# Altium footprint library Wurth_Elektronik_Passive_rev16a.PCBLIB: 810 footprints (part 33 of 51)
Each footprint in its own frame and in the unit in brackets; x right, y up, seen from the top. Pads: shape width x height; smd on the part's side, far side on the other; paste and mask are expansions set on the pad; w line width, h text height; cw(c..) or ccw(c..) is an arc to the next point about the centre after c.
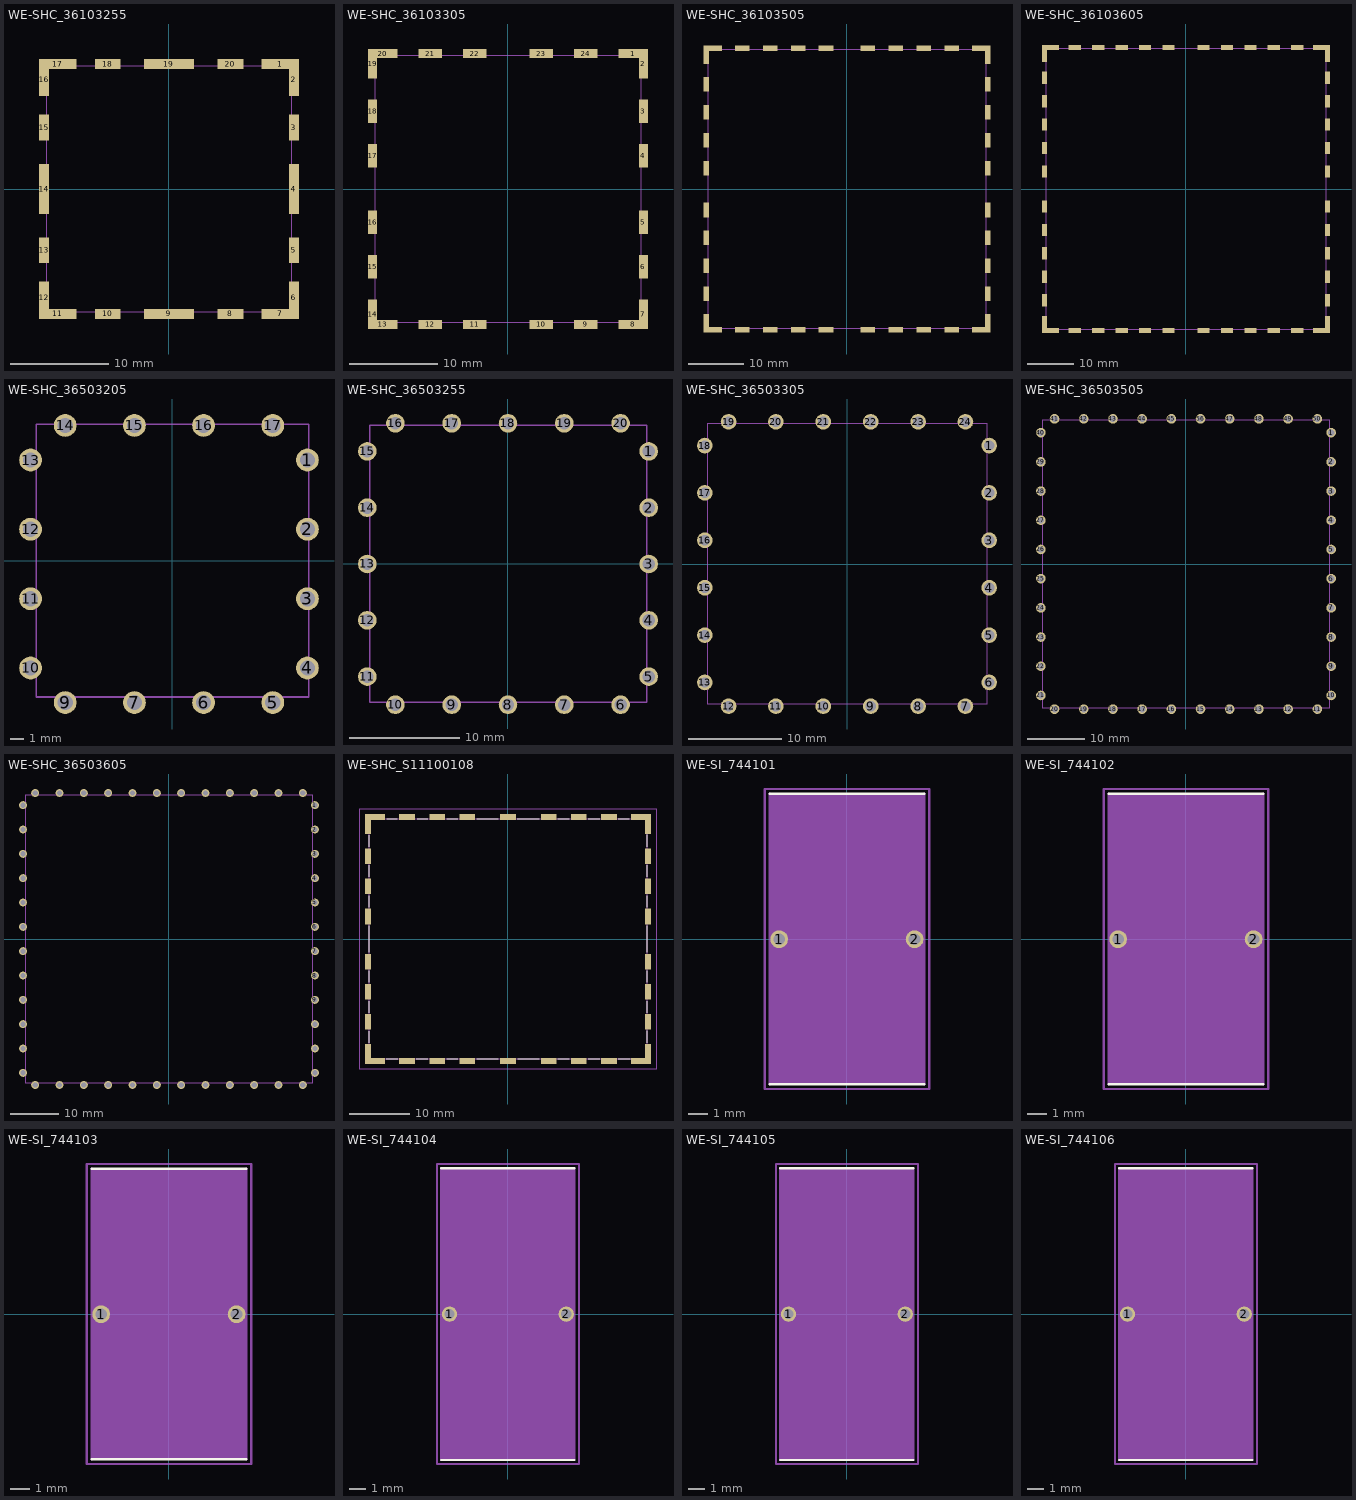
[diagram p32: the footprints below, top view; thin cyan lines are the x and y axes]

## WE-SHC_36103255 [mil]
pads (20):
  rect 150x40 smd: 1(447,502) 7(447,-501.97) 11(-446.85,-501.97) 17(-446.85,502)
  rect 40x130 smd: 2(502,438) 6(502,-437.01) 12(-501.97,-437.01) 16(-501.97,438)
  rect 40x103 smd: 3(502,247) 5(502,-246.06) 13(-501.97,-246.06) 15(-501.97,247)
  rect 40x201 smd: 4(502,0) 14(-501.97,0)
  rect 103x40 smd: 8(247,-501.97) 10(-246.06,-501.97) 18(-246.06,502) 20(247,502)
  rect 201x40 smd: 9(0,-501.97) 19(0,502)
Mechanical 2:
  text ">NAME" at -683.34,689 h77.5
Mechanical 4:
  text ">VALUE" at -683.34,-758.34 h77.5
Mechanical 16:
  lines w5: -492.13,-492.13 -492.13,493 493,493 493,-492.13 -492.13,-492.13

## WE-SHC_36103305 [mil]
pads (24):
  rect 130x40 smd: 1(556,601) 8(556,-600.39) 13(-555.12,-600.39) 20(-555.12,601)
  rect 40x130 smd: 2(601,556) 7(601,-555.12) 14(-600.39,-555.12) 19(-600.39,556)
  rect 40x103 smd: 3(601,345) 4(601,148) 5(601,-147.64) 6(601,-344.49) 15(-600.39,-344.49) 16(-600.39,-147.64) 17(-600.39,148) 18(-600.39,345)
  rect 103x40 smd: 9(345,-600.39) 10(148,-600.39) 11(-147.64,-600.39) 12(-344.49,-600.39) 21(-344.49,601) 22(-147.64,601) 23(148,601) 24(345,601)
Mechanical 2:
  text ">NAME" at -765.98,771 h77.5
Mechanical 4:
  text ">VALUE" at -765.98,-840.98 h77.5
Mechanical 16:
  lines w5: -590.55,-590.55 -590.55,591 591,591 591,-590.55 -590.55,-590.55

## WE-SHC_36103505 [mil]
pads (40):
  rect 130x40 smd: 1(949,995) 12(949,-994.09) 21(-948.82,-994.09) 32(-948.82,995)
  rect 40x130 smd: 2(995,949) 11(995,-948.82) 22(-994.09,-948.82) 31(-994.09,949)
  rect 40x103 smd: 3(995,739) 4(995,542) 5(995,345) 6(995,148) 7(995,-147.64) 8(995,-344.49) 9(995,-541.34) 10(995,-738.19) 23(-994.09,-738.19) 24(-994.09,-541.34) 25(-994.09,-344.49) 26(-994.09,-147.64) 27(-994.09,148) 28(-994.09,345) 29(-994.09,542) 30(-994.09,739)
  rect 103x40 smd: 13(739,-994.09) 14(542,-994.09) 15(345,-994.09) 16(148,-994.09) 17(-147.64,-994.09) 18(-344.49,-994.09) 19(-541.34,-994.09) 20(-738.19,-994.09) 33(-738.19,995) 34(-541.34,995) 35(-344.49,995) 36(-147.64,995) 37(148,995) 38(345,995) 39(542,995) 40(739,995)
Mechanical 2:
  text ">NAME" at -1160.06,1166 h77.5
Mechanical 4:
  text ">VALUE" at -1160.06,-1235.06 h77.5
Mechanical 16:
  lines w5: -984.25,-984.25 -984.25,985 985,985 985,-984.25 -984.25,-984.25

## WE-SHC_36103605 [mil]
pads (48):
  rect 142x40 smd: 1(1140,1191) 14(1140,-1190.94) 25(-1139.76,-1190.94) 38(-1139.76,1191)
  rect 40x142 smd: 2(1191,1140) 13(1191,-1139.76) 26(-1190.94,-1139.76) 37(-1190.94,1140)
  rect 40x103 smd: 3(1191,936) 4(1191,739) 5(1191,542) 6(1191,345) 7(1191,148) 8(1191,-147.64) 9(1191,-344.49) 10(1191,-541.34) 11(1191,-738.19) 12(1191,-935.04) 27(-1190.94,-935.04) 28(-1190.94,-738.19) 29(-1190.94,-541.34) 30(-1190.94,-344.49) 31(-1190.94,-147.64) 32(-1190.94,148) 33(-1190.94,345) 34(-1190.94,542) 35(-1190.94,739) 36(-1190.94,936)
  rect 103x40 smd: 15(936,-1190.94) 16(739,-1190.94) 17(542,-1190.94) 18(345,-1190.94) 19(148,-1190.94) 20(-147.64,-1190.94) 21(-344.49,-1190.94) 22(-541.34,-1190.94) 23(-738.19,-1190.94) 24(-935.04,-1190.94) 39(-935.04,1191) 40(-738.19,1191) 41(-541.34,1191) 42(-344.49,1191) 43(-147.64,1191) 44(148,1191) 45(345,1191) 46(542,1191) 47(739,1191) 49(936,1191)
Mechanical 2:
  text ">NAME" at -1362.65,1368 h77.5
Mechanical 4:
  text ">VALUE" at -1362.65,-1437.65 h77.5
Mechanical 16:
  lines w5: -1181.1,-1181.1 -1181.1,1182 1182,1182 1182,-1181.1 -1181.1,-1181.1

## WE-SHC_36503205 [mil]
pads (16):
  round 66 hole 44: 1(390,291) 2(390,91) 3(390,-109.99) 4(390,-309.99) 5(290,-409.99) 6(90,-409.99) 7(-110.02,-409.99) 9(-310.02,-409.99) 10(-410.02,-309.99) 11(-410.02,-109.99) 12(-410.02,91) 13(-410.02,291) 14(-310.02,391) 15(-110.02,391) 16(90,391) 17(290,391)
Mechanical 2:
  text ">NAME" at -654.11,639 h77.5
Mechanical 4:
  text ">VALUE" at -654.11,-729.11 h77.5
Mechanical 16:
  lines w5: -393.7,-393.7 -393.7,394 394,394 394,-393.7 -393.7,-393.7

## WE-SHC_36503255 [mil]
pads (20):
  round 66 hole 44: 1(500,400) 2(500,200) 3(500,0) 4(500,-200) 5(500,-400) 6(400,-500) 7(200,-500) 8(0,-500) 9(-200,-500) 10(-400,-500) 11(-500,-400) 12(-500,-200) 13(-500,0) 14(-500,200) 15(-500,400) 16(-400,500) 17(-200,500) 18(0,500) 19(200,500) 20(400,500)
Mechanical 2:
  text ">NAME" at -743.81,749 h77.5
Mechanical 4:
  text ">VALUE" at -743.81,-818.81 h77.5
Mechanical 16:
  lines w5: -492.13,-492.13 -492.13,493 493,493 493,-492.13 -492.13,-492.13

## WE-SHC_36503305 [mil]
pads (24):
  round 66 hole 44: 1(600,500) 2(600,300) 3(600,100) 4(600,-100) 5(600,-300) 6(600,-500) 7(500,-600) 8(300,-600) 9(100,-600) 10(-100,-600) 11(-300,-600) 12(-500,-600) 13(-600,-500) 14(-600,-300) 15(-600,-100) 16(-600,100) 17(-600,300) 18(-600,500) 19(-500,600) 20(-300,600) 21(-100,600) 22(100,600) 23(300,600) 24(500,600)
Mechanical 2:
  text ">NAME" at -843.59,849 h77.5
Mechanical 4:
  text ">VALUE" at -843.59,-918.59 h77.5
Mechanical 16:
  lines w5: -590.55,-590.55 -590.55,591 591,591 591,-590.55 -590.55,-590.55

## WE-SHC_36503505 [mil]
pads (40):
  round 66 hole 44: 1(995,900) 2(995,700) 3(995,500) 4(995,300) 5(995,100) 6(995,-100) 7(995,-300) 8(995,-500) 9(995,-700) 10(995,-900) 11(900,-994.09) 12(700,-994.09) 13(500,-994.09) 14(300,-994.09) 15(100,-994.09) 16(-100,-994.09) 17(-300,-994.09) 18(-500,-994.09) 19(-700,-994.09) 20(-900,-994.09) 21(-994.09,-900) 22(-994.09,-700) 23(-994.09,-500) 24(-994.09,-300) 25(-994.09,-100) 26(-994.09,100) 27(-994.09,300) 28(-994.09,500) 29(-994.09,700) 40(-994.09,900) 41(-900,995) 42(-700,995) 43(-500,995) 44(-300,995) 45(-100,995) 47(300,995) 48(500,995) 49(700,995) 50(900,995) 56(100,995)
Mechanical 2:
  text ">NAME" at -1237.67,1243 h77.5
Mechanical 4:
  text ">VALUE" at -1237.67,-1312.67 h77.5
Mechanical 16:
  lines w5: -984.25,-984.25 -984.25,985 985,985 985,-984.25 -984.25,-984.25

## WE-SHC_36503605 [mil]
pads (48):
  round 66 hole 44: 1(1201,1101) 2(1201,901) 3(1201,701) 4(1201,501) 5(1201,301) 6(1201,101) 7(1201,-99.21) 8(1201,-299.21) 9(1201,-499.21) 10(1201,-699.21) 11(1201,-899.21) 12(1201,-1099.21) 13(1101,-1199.21) 14(901,-1199.21) 15(701,-1199.21) 16(501,-1199.21) 17(301,-1199.21) 18(101,-1199.21) 19(-99.21,-1199.21) 20(-299.21,-1199.21) 21(-499.21,-1199.21) 22(-699.21,-1199.21) 23(-899.21,-1199.21) 24(-1099.21,-1199.21) 25(-1199.21,-1099.21) 26(-1199.21,-899.21) 27(-1199.21,-699.21) 28(-1199.21,-499.21) 29(-1199.21,-299.21) 30(-1199.21,-99.21) 31(-1199.21,101) 32(-1199.21,301) 33(-1199.21,501) 34(-1199.21,701) 35(-1199.21,901) 36(-1199.21,1101) 37(-1099.21,1201) 38(-899.21,1201) 39(-699.21,1201) 40(-499.21,1201) 41(-299.21,1201) 42(-99.21,1201) 43(101,1201) 44(301,1201) 45(501,1201) 46(701,1201) 47(901,1201) 48(1101,1201)
Mechanical 2:
  text ">NAME" at -1443.28,1450 h77.5
Mechanical 4:
  text ">VALUE" at -1443.28,-1518.28 h77.5
Mechanical 16:
  lines w5: -1181.1,-1181.1 -1181.1,1182 1182,1182 1182,-1181.1 -1181.1,-1181.1

## WE-SHC_S11100108 [mil]
pads (34):
  rect 40x130 smd: 1(-915.35,752) 11(916,752) 18(916,-751.97) 28(-915.35,-751.97)
  rect 130x40 smd: 2(-870.08,798) 10(871,798) 19(871,-797.24) 27(-870.08,-797.24)
  rect 103x40 smd: 3(-659.45,798) 4(-462.6,798) 5(-265.75,798) 6(0,798) 7(266,798) 8(463,798) 9(660,798) 20(660,-797.24) 21(463,-797.24) 22(266,-797.24) 23(0,-797.24) 24(-265.75,-797.24) 25(-462.6,-797.24) 26(-659.45,-797.24)
  rect 40x103 smd: 12(916,542) 13(916,345) 14(916,148) 15(916,-147.64) 16(916,-344.49) 17(916,-541.34) 29(-915.35,-541.34) 30(-915.35,-344.49) 31(-915.35,-147.64) 32(-915.35,148) 33(-915.35,345) 34(-915.35,542)
Top Overlay:
  lines w5: -905.51,-677.17 -905.51,-602.36 ; -905.51,-480.31 -905.51,-405.51 ; -905.51,-283.46 -905.51,-208.66 ; -905.51,-86.61 -905.51,87 ; -905.51,209 -905.51,284 ; -905.51,406 -905.51,481 ; -905.51,603 -905.51,678 ; -795.28,-787.4 -720.47,-787.4 ; -791.34,788 -724.41,788 ; -598.43,-787.4 -523.62,-787.4 ; -594.49,788 -523.62,788 ; -401.57,-787.4 -326.77,-787.4 ; -401.57,788 -326.77,788 ; -204.72,-787.4 -62.99,-787.4 ; -204.72,788 -62.99,788 ; 60,788 205,788 ; 63,-787.4 205,-787.4 ; 327,-787.4 402,-787.4 ; 327,788 402,788 ; 524,-787.4 599,-787.4 ; 524,788 599,788 ; 721,-787.4 800,-787.4 ; 721,788 792,788 ; 906,-677.17 906,-598.43 ; 906,-480.31 906,-405.51 ; 906,-283.46 906,-208.66 ; 906,-86.61 906,87 ; 906,209 906,284 ; 906,406 906,481 ; 906,603 906,682
Mechanical 2:
  text ">NAME" at -212.65,918 h77.5
Mechanical 4:
  text ">VALUE" at -212.65,-937.65 h77.5
Mechanical 16:
  lines w5: -905.51,-787.4 906,-787.4 906,788 -905.51,788 -905.51,-787.4
Mechanical 27:
  lines w5: -968.5,-850.39 969,-850.39 969,851 -968.5,851 -968.5,-850.39

## WE-SI_744101 [mil]
pads (2):
  round 36 hole 24: 1(-137.8,0) 2(138,0)
Top Overlay:
  lines w5: -157.48,-295.28 158,-295.28 ; -157.48,296 158,296
Mechanical 2:
  text ">NAME" at -200,350 h77.5
Mechanical 4:
  text ">VALUE" at -200,-400 h77.5
Mechanical 10:
  rectangle: -157.48,-295.28 158,296
Mechanical 16:
  lines w5: -157.48,-295.28 -157.48,296 ; 158,-295.28 158,296
Mechanical 27:
  lines w5: -167.32,-305.12 -167.32,306 168,306 168,-305.12 -167.32,-305.12

## WE-SI_744102 [mil]
pads (2):
  round 36 hole 24: 1(-137.8,0) 2(138,0)
Top Overlay:
  lines w5: -157.48,-295.28 158,-295.28 ; -157.48,296 158,296
Mechanical 2:
  text ">NAME" at -200,350 h77.5
Mechanical 4:
  text ">VALUE" at -200,-400 h77.5
Mechanical 10:
  rectangle: -157.48,-295.28 158,296
Mechanical 16:
  lines w5: -157.48,-295.28 -157.48,296 ; 158,-295.28 158,296
Mechanical 27:
  lines w5: -167.32,-305.12 -167.32,306 168,306 168,-305.12 -167.32,-305.12

## WE-SI_744103 [mil]
pads (2):
  round 36 hole 24: 1(-137.8,0) 2(138,0)
Top Overlay:
  lines w5: -157.48,-295.28 158,-295.28 ; -157.48,296 158,296
Mechanical 2:
  text ">NAME" at -200,350 h77.5
Mechanical 4:
  text ">VALUE" at -200,-400 h77.5
Mechanical 10:
  rectangle: -157.48,-295.28 158,296
Mechanical 16:
  lines w5: -157.48,-295.28 -157.48,296 ; 158,-295.28 158,296
Mechanical 27:
  lines w5: -167.32,-305.12 -167.32,306 168,306 168,-305.12 -167.32,-305.12

## WE-SI_744104 [mil]
pads (2):
  round 36 hole 24: 1(-137.8,0) 2(138,0)
Top Overlay:
  lines w5: -157.48,-344.49 158,-344.49 ; -157.48,345 158,345
Mechanical 2:
  text ">NAME" at -200,400 h77.5
Mechanical 4:
  text ">VALUE" at -200,-450 h77.5
Mechanical 10:
  rectangle: -157.48,-344.49 158,345
Mechanical 16:
  lines w5: -157.48,-344.49 -157.48,345 ; 158,-344.49 158,345
Mechanical 27:
  lines w5: -167.32,-354.33 -167.32,355 168,355 168,-354.33 -167.32,-354.33

## WE-SI_744105 [mil]
pads (2):
  round 36 hole 24: 1(-137.8,0) 2(138,0)
Top Overlay:
  lines w5: -157.48,-344.49 158,-344.49 ; -157.48,345 158,345
Mechanical 2:
  text ">NAME" at -200,400 h77.5
Mechanical 4:
  text ">VALUE" at -200,-450 h77.5
Mechanical 10:
  rectangle: -157.48,-344.49 158,345
Mechanical 16:
  lines w5: -157.48,-344.49 -157.48,345 ; 158,-344.49 158,345
Mechanical 27:
  lines w5: -167.32,-354.33 -167.32,355 168,355 168,-354.33 -167.32,-354.33

## WE-SI_744106 [mil]
pads (2):
  round 36 hole 24: 1(-137.8,0) 2(138,0)
Top Overlay:
  lines w5: -157.48,-344.49 158,-344.49 ; -157.48,345 158,345
Mechanical 2:
  text ">NAME" at -200,400 h77.5
Mechanical 4:
  text ">VALUE" at -200,-450 h77.5
Mechanical 10:
  rectangle: -157.48,-344.49 158,345
Mechanical 16:
  lines w5: -157.48,-344.49 -157.48,345 ; 158,-344.49 158,345
Mechanical 27:
  lines w5: -167.32,-354.33 -167.32,355 168,355 168,-354.33 -167.32,-354.33